# EAGLE library part AT32UC3C2 (library atmega-atxmega)
ATMEL 32-bit Microcontroller 64KB, 128KB, 256KB, 512KB 64-pin TQFP or PQFN (45 GPIO pins) http://www.atmel.com/Images/32117s.pdf
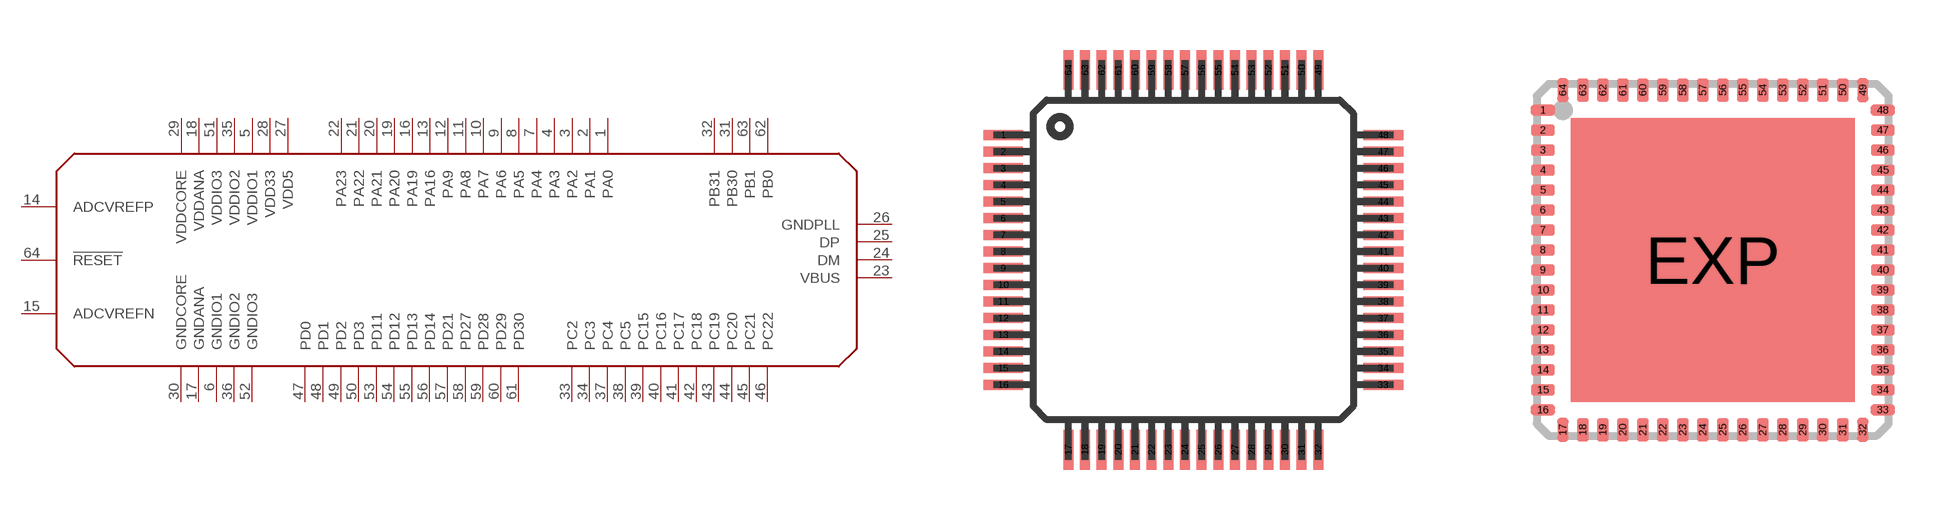
[diagram p98: symbol with the pads of TQFP64-10X10; footprints TQFP64-10X10, PQFN64-1]

Designator prefix -

## AT32UC3C2TQFP, AT32UC3C2064TQFP, AT32UC3C2128TQFP, AT32UC3C2256TQFP, AT32UC3C2512TQFP  [TQFP64-10X10]
1  PA0
2  PA1
3  PA2
4  PA3
5  VDDIO1
6  GNDIO1
7  PA4
8  PA5
9  PA6
10  PA7
11  PA8
12  PA9
13  PA16
14  ADCVREFP
15  ADCVREFN
16  PA19
17  GNDANA
18  VDDANA
19  PA20
20  PA21
21  PA22
22  PA23
23  VBUS
24  DM
25  DP
26  GNDPLL
27  VDD5
28  VDD33
29  VDDCORE
30  GNDCORE
31  PB30
32  PB31
33  PC2
34  PC3
35  VDDIO2
36  GNDIO2
37  PC4
38  PC5
39  PC15
40  PC16
41  PC17
42  PC18
43  PC19
44  PC20
45  PC21
46  PC22
47  PD0
48  PD1
49  PD2
50  PD3
51  VDDIO3
52  GNDIO3
53  PD11
54  PD12
55  PD13
56  PD14
57  PD21
58  PD27
59  PD28
60  PD29
61  PD30
62  PB0
63  PB1
64  !RESET

## AT32UC3C2TQFN, AT32UC3C2064TQFN (FLASH: 64KB), AT32UC3C2128TQFN (FLASH: 128KB), AT32UC3C2256TQFN (FLASH: 256KB), AT32UC3C2512TQFN (FLASH: 512KB)  [PQFN64-1]
1  PA0
2  PA1
3  PA2
4  PA3
5  VDDIO1
6  GNDIO1
7  PA4
8  PA5
9  PA6
10  PA7
11  PA8
12  PA9
13  PA16
14  ADCVREFP
15  ADCVREFN
16  PA19
17  GNDANA
18  VDDANA
19  PA20
20  PA21
21  PA22
22  PA23
23  VBUS
24  DM
25  DP
26  GNDPLL
27  VDD5
28  VDD33
29  VDDCORE
30  GNDCORE
31  PB30
32  PB31
33  PC2
34  PC3
35  VDDIO2
36  GNDIO2
37  PC4
38  PC5
39  PC15
40  PC16
41  PC17
42  PC18
43  PC19
44  PC20
45  PC21
46  PC22
47  PD0
48  PD1
49  PD2
50  PD3
51  VDDIO3
52  GNDIO3
53  PD11
54  PD12
55  PD13
56  PD14
57  PD21
58  PD27
59  PD28
60  PD29
61  PD30
62  PB0
63  PB1
64  !RESET
EXP  GNDCORE

## Footprint TQFP64-10X10 (pad centres in mm)
Thin Quad Flat Pack package type TQ
smd 1.2 x 0.3: 1 -5.7,3.75; 2 -5.7,3.25; 3 -5.7,2.75; 4 -5.7,2.25; 5 -5.7,1.75; 6 -5.7,1.25; 7 -5.7,0.75; 8 -5.7,0.25; 9 -5.7,-0.25; 10 -5.7,-0.75; 11 -5.7,-1.25; 12 -5.7,-1.75; 13 -5.7,-2.25; 14 -5.7,-2.75; 15 -5.7,-3.25; 16 -5.7,-3.75; 33 5.7,-3.75; 34 5.7,-3.25; 35 5.7,-2.75; 36 5.7,-2.25; 37 5.7,-1.75; 38 5.7,-1.25; 39 5.7,-0.75; 40 5.7,-0.25; 41 5.7,0.25; 42 5.7,0.75; 43 5.7,1.25; 44 5.7,1.75; 45 5.7,2.25; 46 5.7,2.75; 47 5.7,3.25; 48 5.7,3.75
smd 0.3 x 1.2: 17 -3.75,-5.7; 18 -3.25,-5.7; 19 -2.75,-5.7; 20 -2.25,-5.7; 21 -1.75,-5.7; 22 -1.25,-5.7; 23 -0.75,-5.7; 24 -0.25,-5.7; 25 0.25,-5.7; 26 0.75,-5.7; 27 1.25,-5.7; 28 1.75,-5.7; 29 2.25,-5.7; 30 2.75,-5.7; 31 3.25,-5.7; 32 3.75,-5.7; 49 3.75,5.7; 50 3.25,5.7; 51 2.75,5.7; 52 2.25,5.7; 53 1.75,5.7; 54 1.25,5.7; 55 0.75,5.7; 56 0.25,5.7; 57 -0.25,5.7; 58 -0.75,5.7; 59 -1.25,5.7; 60 -1.75,5.7; 61 -2.25,5.7; 62 -2.75,5.7; 63 -3.25,5.7; 64 -3.75,5.7

## Footprint PQFN64-1 (pad centres in mm)
Plastic Quad Flat Non-leaded package 64 pins, 9 × 9 × 0.85 mm³, 0.5 mm pitch Source: https://www.micronas.com .. mas35x9f_3ds.pdf
smd 0.6 x 0.28: 1 -4.25,3.75; 2 -4.25,3.25; 3 -4.25,2.75; 4 -4.25,2.25; 5 -4.25,1.75; 6 -4.25,1.25; 7 -4.25,0.75; 8 -4.25,0.25; 9 -4.25,-0.25; 10 -4.25,-0.75; 11 -4.25,-1.25; 12 -4.25,-1.75; 13 -4.25,-2.25; 14 -4.25,-2.75; 15 -4.25,-3.25; 16 -4.25,-3.75; 33 4.25,-3.75; 34 4.25,-3.25; 35 4.25,-2.75; 36 4.25,-2.25; 37 4.25,-1.75; 38 4.25,-1.25; 39 4.25,-0.75; 40 4.25,-0.25; 41 4.25,0.25; 42 4.25,0.75; 43 4.25,1.25; 44 4.25,1.75; 45 4.25,2.25; 46 4.25,2.75; 47 4.25,3.25; 48 4.25,3.75
smd 0.28 x 0.6: 17 -3.75,-4.25; 18 -3.25,-4.25; 19 -2.75,-4.25; 20 -2.25,-4.25; 21 -1.75,-4.25; 22 -1.25,-4.25; 23 -0.75,-4.25; 24 -0.25,-4.25; 25 0.25,-4.25; 26 0.75,-4.25; 27 1.25,-4.25; 28 1.75,-4.25; 29 2.25,-4.25; 30 2.75,-4.25; 31 3.25,-4.25; 32 3.75,-4.25; 49 3.75,4.25; 50 3.25,4.25; 51 2.75,4.25; 52 2.25,4.25; 53 1.75,4.25; 54 1.25,4.25; 55 0.75,4.25; 56 0.25,4.25; 57 -0.25,4.25; 58 -0.75,4.25; 59 -1.25,4.25; 60 -1.75,4.25; 61 -2.25,4.25; 62 -2.75,4.25; 63 -3.25,4.25; 64 -3.75,4.25
smd 7.1 x 7.1: EXP 0,0